# Altium footprint library Y001_Artix7_USB3.0_D0.PcbLib: 33 footprints (part 1 of 3)
Each footprint in its own frame and in the unit in brackets; x right, y up, seen from the top. Pads: shape width x height; smd on the part's side, far side on the other; paste and mask are expansions set on the pad; w line width, h text height; cw(c..) or ccw(c..) is an arc to the next point about the centre after c.
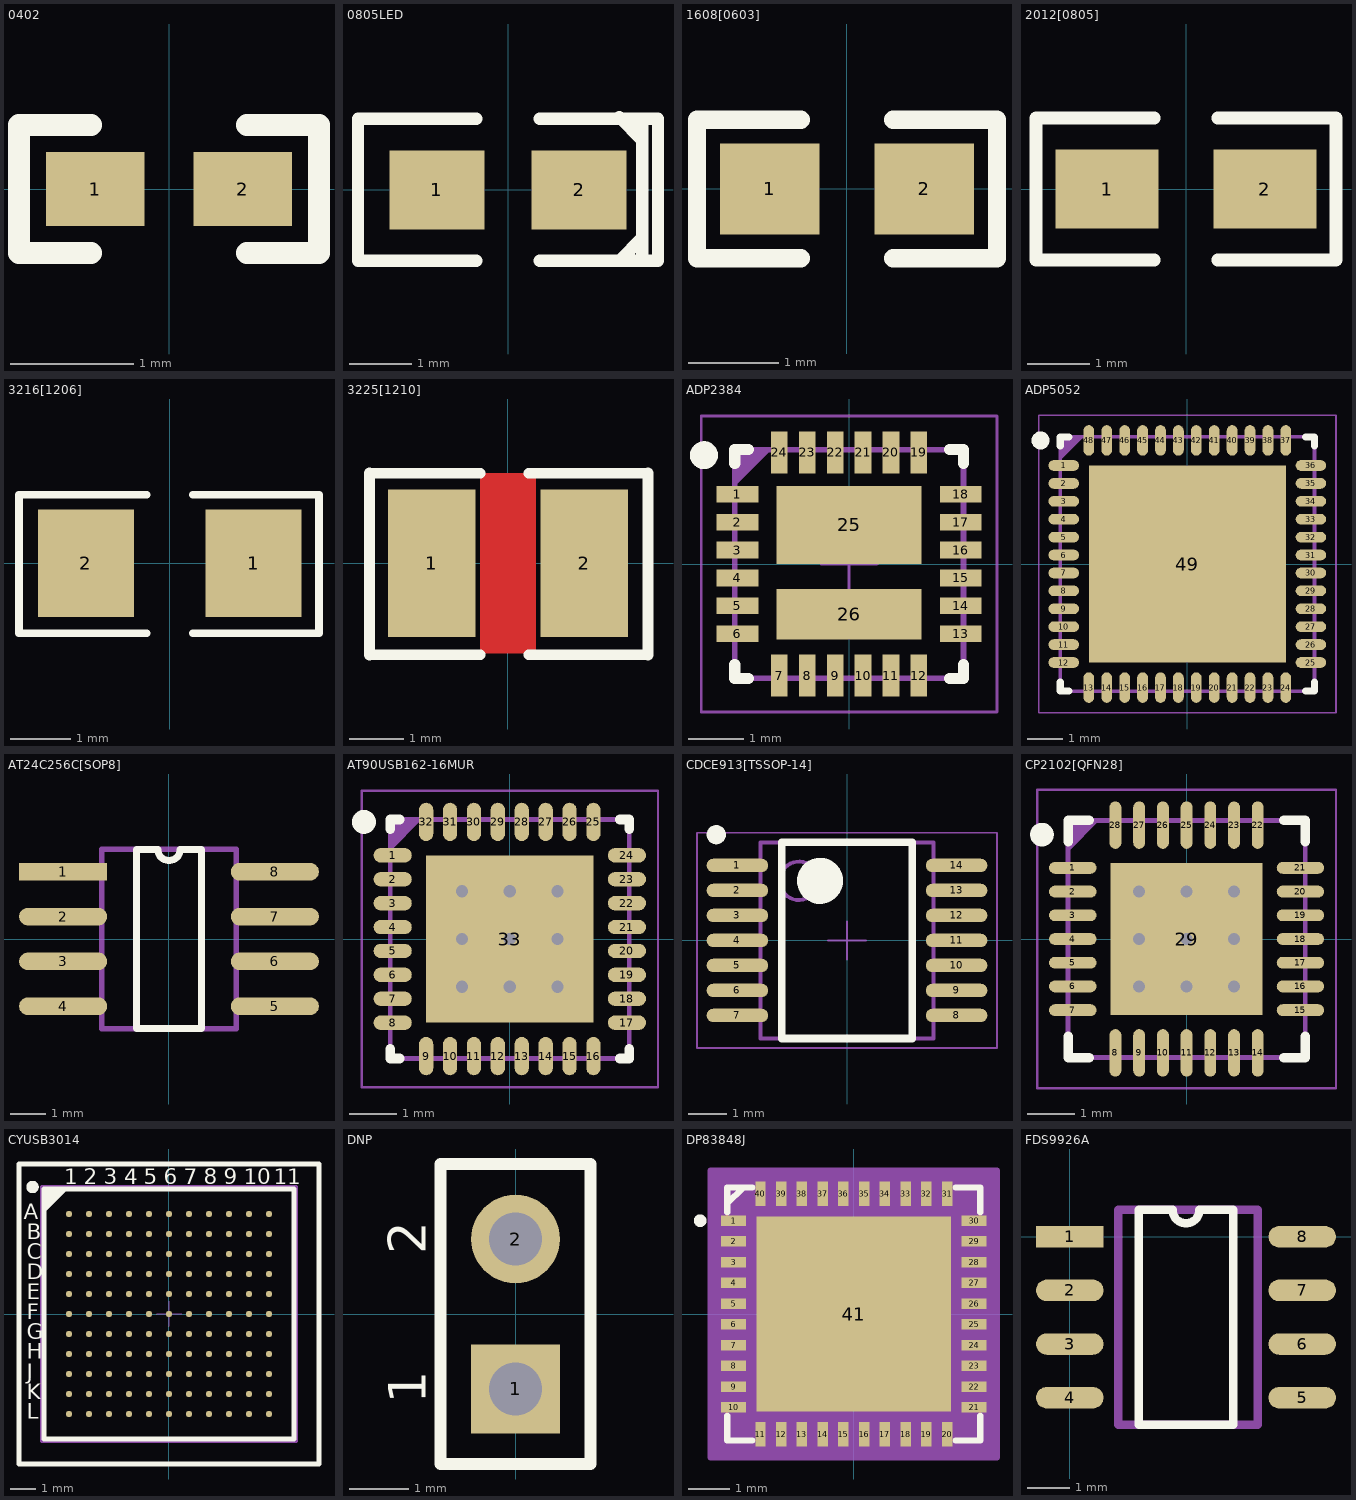
[diagram p0: the footprints below, top view; thin cyan lines are the x and y axes]

## 0402 [mm]
pads (2):
  rect 0.8x0.6 smd: 1(-0.6,0) 2(0.6,0)
Top Overlay:
  lines w0.178: -0.635,-0.521 -1.219,-0.521 -1.219,0.521 -0.635,0.521 ; 0.635,-0.521 1.219,-0.521 1.219,0.521 0.635,0.521
3D body: height 0.6, standoff 0, extent -0.549,-0.299 -0.351,0.299
3D body: height 0.6, standoff 0, extent -0.349,-0.299 0.349,0.299
3D body: height 0.6, standoff 0, extent 0.351,-0.299 0.549,0.299

## 0805LED [mil]
pads (2):
  rect 60x50 smd: 1(-45,0) 2(45,0)
Top Overlay:
  lines w7.87: -20,-45 -95,-45 -95,45 -20,45 ; 20,-45 95,-45 95,45 20,45 ; 70.51,-45 85,-30.51 ; 70.51,45.98 85,31.5 ; 85,-45 85,45

## 1608[0603] [mm]
pads (2):
  rect 1.1x1 smd: 1(-0.85,0) 2(0.85,0)
Top Overlay:
  lines w0.203: -0.508,-0.762 -1.651,-0.762 -1.651,0.762 -0.508,0.762 ; 0.508,-0.762 1.651,-0.762 1.651,0.762 0.508,0.762

## 2012[0805] [mil]
pads (2):
  rect 65x50 smd: 1(-50,0) 2(50,0)
Top Overlay:
  lines w8: -20,-45 -95,-45 -95,45 -20,45 ; 20,-45 95,-45 95,45 20,45

## 3216[1206] [mm]
pads (2):
  rect 1.6x1.8 smd: 1(1.4,0) 2(-1.4,0)
Top Overlay:
  lines w0.127: -0.381,-1.168 -2.515,-1.168 -2.515,1.143 -0.381,1.143 ; 0.381,-1.168 2.489,-1.168 2.489,1.143 0.381,1.143

## 3225[1210] [mm]
pads (2):
  rect 1.6x2.7 smd: 1(-1.4,0) 2(1.4,0)
Top Layer:
  pour cut-out: -0.508,1.651 0.508,1.651 0.508,-1.651 -0.508,-1.651
Top Overlay:
  lines w0.2: -2.54,-1.676 -0.508,-1.676 ; -2.54,1.651 -0.508,1.651 ; 0.381,-1.676 2.565,-1.676 ; 0.381,1.651 2.565,1.651
  lines w0.203: -2.54,-1.676 -2.54,1.651 ; 2.565,-1.676 2.565,1.651

## ADP2384 [mm]
pads (26):
  rect 0.75x0.3 smd: 1(-2,1.25) 2(-2,0.75) 3(-2,0.25) 4(-2,-0.25) 5(-2,-0.75) 6(-2,-1.25) 13(2,-1.25) 14(2,-0.75) 15(2,-0.25) 16(2,0.25) 17(2,0.75) 18(2,1.25)
  rect 0.3x0.75 smd: 7(-1.25,-2) 8(-0.75,-2) 9(-0.25,-2) 10(0.25,-2) 11(0.75,-2) 12(1.25,-2) 19(1.25,2) 20(0.75,2) 21(0.25,2) 22(-0.25,2) 23(-0.75,2) 24(-1.25,2)
  rect 2.6x1.4 smd: 25(0,0.7)
  rect 2.6x0.9 smd: 26(0,-0.9)
Top Overlay:
  circle w0.25: c-2.6,1.95 r0.125
  lines w0.2: -2.05,-1.8 -2.05,-2.05 -1.8,-2.05 ; -2.05,1.8 -2.05,2.05 -1.8,2.05 ; 1.8,-2.05 2.05,-2.05 2.05,-1.8 ; 1.8,2.05 2.05,2.05 2.05,1.8
Mechanical 15:
  lines w0.1: -2.05,1.45 -1.45,2.05 ; -2.05,1.55 -1.55,2.05 ; -2.05,1.65 -1.65,2.05 ; -2.05,1.75 -1.75,2.05 ; -2.05,1.85 -1.85,2.05 ; -2.05,1.95 -1.95,2.05 ; -2.05,-2.05 2.05,-2.05 2.05,2.05 -2.05,2.05 -2.05,-2.05
Mechanical 20:
  lines w0.05: -0.5,0 0.5,0 ; 0,-0.5 0,0.5 ; -2.65,-2.65 2.65,-2.65 2.65,2.65 -2.65,2.65 -2.65,-2.65
Mechanical 21:
  lines w0.001: -2.05,-2.05 2.05,-2.05 2.05,2.05 -2.05,2.05 -2.05,-2.05

## ADP5052 [mm]
pads (49):
  oval 0.85x0.3 smd: 1(-3.45,2.75) 2(-3.45,2.25) 3(-3.45,1.75) 4(-3.45,1.25) 5(-3.45,0.75) 6(-3.45,0.25) 7(-3.45,-0.25) 8(-3.45,-0.75) 9(-3.45,-1.25) 10(-3.45,-1.75) 11(-3.45,-2.25) 12(-3.45,-2.75) 25(3.45,-2.75) 26(3.45,-2.25) 27(3.45,-1.75) 28(3.45,-1.25) 29(3.45,-0.75) 30(3.45,-0.25) 31(3.45,0.25) 32(3.45,0.75) 33(3.45,1.25) 34(3.45,1.75) 35(3.45,2.25) 36(3.45,2.75)
  oval 0.3x0.85 smd: 13(-2.75,-3.45) 14(-2.25,-3.45) 15(-1.75,-3.45) 16(-1.25,-3.45) 17(-0.75,-3.45) 18(-0.25,-3.45) 19(0.25,-3.45) 20(0.75,-3.45) 21(1.25,-3.45) 22(1.75,-3.45) 23(2.25,-3.45) 24(2.75,-3.45) 37(2.75,3.45) 38(2.25,3.45) 39(1.75,3.45) 40(1.25,3.45) 41(0.75,3.45) 42(0.25,3.45) 43(-0.25,3.45) 44(-0.75,3.45) 45(-1.25,3.45) 46(-1.75,3.45) 47(-2.25,3.45) 48(-2.75,3.45)
  rect 5.5x5.5 smd: 49(0,0)
Top Overlay:
  circle w0.25: c-4.1,3.45 r0.125
  lines w0.2: -3.55,-3.3 -3.55,-3.55 -3.3,-3.55 ; -3.55,3.3 -3.55,3.55 -3.3,3.55 ; 3.3,-3.55 3.55,-3.55 3.55,-3.3 ; 3.3,3.55 3.55,3.55 3.55,3.3
Top Paste:
  region: 0.57,-0.57 2.27,-0.57 2.27,-2.27 0.57,-2.27
  region: -2.26,-0.57 -0.56,-0.57 -0.56,-2.27 -2.26,-2.27
  region: 0.57,2.26 2.27,2.26 2.27,0.56 0.57,0.56
  region: -2.26,2.26 -0.56,2.26 -0.56,0.56 -2.26,0.56
Mechanical 15:
  lines w0.1: -3.55,2.95 -2.95,3.55 ; -3.55,3.05 -3.05,3.55 ; -3.55,3.15 -3.15,3.55 ; -3.55,3.25 -3.25,3.55 ; -3.55,3.35 -3.35,3.55 ; -3.55,3.45 -3.45,3.55 ; -3.55,-3.55 -3.55,3.55 3.55,3.55 3.55,-3.55 -3.55,-3.55
Mechanical 20:
  lines w0.05: -0.5,0 0.5,0 ; 0,-0.5 0,0.5 ; -4.15,-4.15 -4.15,4.15 4.15,4.15 4.15,-4.15 -4.15,-4.15
Mechanical 21:
  lines w0.001: -3.55,-3.55 -3.55,3.55 3.55,3.55 3.55,-3.55 -3.55,-3.55
3D body: height 0.8, standoff 0, extent -3.154,-3.154 3.048,3.048

## AT24C256C[SOP8] [mm]
pads (8):
  rect 2.5x0.5 smd: 1(-3,1.905)
  oval 2.5x0.5 smd: 2(-3,0.635) 3(-3,-0.635) 4(-3,-1.905) 5(3,-1.905) 6(3,-0.635) 7(3,0.635) 8(3,1.905)
Top Overlay:
  lines w0.2: -0.915,-2.54 -0.915,2.54 -0.318,2.54 ccw(c0,2.54) 0.318,2.54 0.915,2.54 0.915,-2.54 -0.915,-2.54
Mechanical 15:
  lines w0.152: -1.905,-2.54 -1.905,2.54 1.905,2.54 1.905,-2.54 -1.905,-2.54
3D body: height 1.2, standoff 0, extent -1.905,-2.54 1.905,2.54

## AT90USB162-16MUR [mm]
pads (33):
  oval 0.8x0.3 smd: 1(-2.45,1.75) 2(-2.45,1.25) 3(-2.45,0.75) 4(-2.45,0.25) 5(-2.45,-0.25) 6(-2.45,-0.75) 7(-2.45,-1.25) 8(-2.45,-1.75) 17(2.45,-1.75) 18(2.45,-1.25) 19(2.45,-0.75) 20(2.45,-0.25) 21(2.45,0.25) 22(2.45,0.75) 23(2.45,1.25) 24(2.45,1.75)
  oval 0.3x0.8 smd: 9(-1.75,-2.45) 10(-1.25,-2.45) 11(-0.75,-2.45) 12(-0.25,-2.45) 13(0.25,-2.45) 14(0.75,-2.45) 15(1.25,-2.45) 16(1.75,-2.45) 25(1.75,2.45) 26(1.25,2.45) 27(0.75,2.45) 28(0.25,2.45) 29(-0.25,2.45) 30(-0.75,2.45) 31(-1.25,2.45) 32(-1.75,2.45)
  rect 3.5x3.5 smd: 33(0,0)
via 0,0 diameter 0.508 hole 0.254
via 1,-1 diameter 0.508 hole 0.254
via 0,-1 diameter 0.508 hole 0.254
via -1,-1 diameter 0.508 hole 0.254
via 1,0 diameter 0.508 hole 0.254
via -1,0 diameter 0.508 hole 0.254
via 1,1 diameter 0.508 hole 0.254
via 0,1 diameter 0.508 hole 0.254
via -1,1 diameter 0.508 hole 0.254
Top Overlay:
  circle w0.25: c-3.05,2.45 r0.125
  lines w0.2: -2.5,-2.3 -2.5,-2.5 -2.3,-2.5 ; -2.5,2.3 -2.5,2.5 -2.3,2.5 ; 2.3,-2.5 2.5,-2.5 2.5,-2.3 ; 2.3,2.5 2.5,2.5 2.5,2.3
Top Paste:
  region: -1.11,1.11 1.11,1.11 1.11,-1.11 -1.11,-1.11
Mechanical 15:
  lines w0.1: -2.5,1.9 -1.9,2.5 ; -2.5,2 -2,2.5 ; -2.5,2.1 -2.1,2.5 ; -2.5,2.2 -2.2,2.5 ; -2.5,2.3 -2.3,2.5 ; -2.5,2.4 -2.4,2.5 ; -2.5,-2.5 -2.5,2.5 2.5,2.5 2.5,-2.5 -2.5,-2.5
Mechanical 20:
  lines w0.05: -0.5,0 0.5,0 ; 0,-0.5 0,0.5 ; -3.1,-3.1 -3.1,3.1 3.1,3.1 3.1,-3.1 -3.1,-3.1
Mechanical 21:
  lines w0.001: -2.5,-2.5 -2.5,2.5 2.5,2.5 2.5,-2.5 -2.5,-2.5
3D body: height 1, standoff 0, extent -2.54,-2.54 2.54,2.54

## CDCE913[TSSOP-14] [mm]
pads (14):
  oval 1.6x0.35 smd: 1(-2.85,1.95) 2(-2.85,1.3) 3(-2.85,0.65) 4(-2.85,0) 5(-2.85,-0.65) 6(-2.85,-1.3) 7(-2.85,-1.95) 8(2.85,-1.95) 9(2.85,-1.3) 10(2.85,-0.65) 11(2.85,0) 12(2.85,0.65) 13(2.85,1.3) 14(2.85,1.95)
Top Overlay:
  circle w0.6: c-0.7,1.55 r0.3
  circle w0.25: c-3.4,2.75 r0.125
  lines w0.2: -1.7,-2.55 -1.7,2.55 1.7,2.55 1.7,-2.55 -1.7,-2.55
Mechanical 15:
  circle w0.1: c-1.25,1.55 r0.5
  lines w0.1: -2.25,-2.55 -2.25,2.55 2.25,2.55 2.25,-2.55 -2.25,-2.55
Mechanical 20:
  lines w0.05: -0.5,0 0.5,0 ; 0,-0.5 0,0.5 ; -3.9,-2.8 -3.9,2.8 3.9,2.8 3.9,-2.8 -3.9,-2.8
Mechanical 21:
  lines w0.001: -2.25,-2.55 -2.25,2.55 2.25,2.55 2.25,-2.55 -2.25,-2.55

## CP2102[QFN28] [mm]
pads (29):
  oval 1x0.25 smd: 1(-2.4,1.5) 2(-2.4,1) 3(-2.4,0.5) 4(-2.4,0) 5(-2.4,-0.5) 6(-2.4,-1) 7(-2.4,-1.5) 15(2.4,-1.5) 16(2.4,-1) 17(2.4,-0.5) 18(2.4,0) 19(2.4,0.5) 20(2.4,1) 21(2.4,1.5)
  oval 0.25x1 smd: 8(-1.5,-2.4) 9(-1,-2.4) 10(-0.5,-2.4) 11(0,-2.4) 12(0.5,-2.4) 13(1,-2.4) 14(1.5,-2.4) 22(1.5,2.4) 23(1,2.4) 24(0.5,2.4) 25(0,2.4) 26(-0.5,2.4) 27(-1,2.4) 28(-1.5,2.4)
  rect 3.2x3.2 smd: 29(0,0)
via 1,-1 diameter 0.508 hole 0.254
via 0,-1 diameter 0.508 hole 0.254
via -1,-1 diameter 0.508 hole 0.254
via -1,0 diameter 0.508 hole 0.254
via 1,0 diameter 0.508 hole 0.254
via 1,1 diameter 0.508 hole 0.254
via 0,1 diameter 0.508 hole 0.254
via -1,1 diameter 0.508 hole 0.254
via 0,0 diameter 0.508 hole 0.254
Top Overlay:
  circle w0.25: c-3.05,2.2 r0.125
  lines w0.2: -2.5,-2.05 -2.5,-2.5 -2.05,-2.5 ; -2.5,2.05 -2.5,2.5 -2.05,2.5 ; 2.05,-2.5 2.5,-2.5 2.5,-2.05 ; 2.05,2.5 2.5,2.5 2.5,2.05
Top Paste:
  region: -1.005,1.005 1.005,1.005 1.005,-1.005 -1.005,-1.005
Mechanical 15:
  lines w0.1: -2.5,1.9 -1.9,2.5 ; -2.5,2 -2,2.5 ; -2.5,2.1 -2.1,2.5 ; -2.5,2.2 -2.2,2.5 ; -2.5,2.3 -2.3,2.5 ; -2.5,2.4 -2.4,2.5 ; -2.5,-2.5 -2.5,2.5 2.5,2.5 2.5,-2.5 -2.5,-2.5
Mechanical 20:
  lines w0.05: -0.5,0 0.5,0 ; 0,-0.5 0,0.5 ; -3.15,-3.15 -3.15,3.15 3.15,3.15 3.15,-3.15 -3.15,-3.15
Mechanical 21:
  lines w0.001: -2.5,-2.5 -2.5,2.5 2.5,2.5 2.5,-2.5 -2.5,-2.5
3D body: height 1, standoff 0, extent -2.54,-2.54 2.54,2.54

## CYUSB3014 [mil]
pads (121):
  round 10 smd: A1(-157.48,157.48) A2(-125.98,157.48) A3(-94.49,157.48) A4(-62.99,157.48) A5(-31.5,157.48) A6(0,157.48) A7(31.5,157.48) A8(62.99,157.48) A9(94.49,157.48) A10(125.98,157.48) A11(157.48,157.48) B1(-157.48,125.98) B2(-125.98,125.98) B3(-94.49,125.98) B4(-62.99,125.98) B5(-31.5,125.98) B6(0,125.98) B7(31.5,125.98) B8(62.99,125.98) B9(94.49,125.98) B10(125.98,125.98) B11(157.48,125.98) C1(-157.48,94.49) C2(-125.98,94.49) C3(-94.49,94.49) C4(-62.99,94.49) C5(-31.5,94.49) C6(0,94.49) C7(31.5,94.49) C8(62.99,94.49) C9(94.49,94.49) C10(125.98,94.49) C11(157.48,94.49) D1(-157.48,62.99) D2(-125.98,62.99) D3(-94.49,62.99) D4(-62.99,62.99) D5(-31.5,62.99) D6(0,62.99) D7(31.5,62.99) D8(62.99,62.99) D9(94.49,62.99) D10(125.98,62.99) D11(157.48,62.99) E1(-157.48,31.5) E2(-125.98,31.5) E3(-94.49,31.5) E4(-62.99,31.5) E5(-31.5,31.5) E6(0,31.5) E7(31.5,31.5) E8(62.99,31.5) E9(94.49,31.5) E10(125.98,31.5) E11(157.48,31.5) F1(-157.48,0) F2(-125.98,0) F3(-94.49,0) F4(-62.99,0) F5(-31.5,0) F6(0,0) F7(31.5,0) F8(62.99,0) F9(94.49,0) F10(125.98,0) F11(157.48,0) G1(-157.48,-31.5) G2(-125.98,-31.5) G3(-94.49,-31.5) G4(-62.99,-31.5) G5(-31.5,-31.5) G6(0,-31.5) G7(31.5,-31.5) G8(62.99,-31.5) G9(94.49,-31.5) G10(125.98,-31.5) G11(157.48,-31.5) H1(-157.48,-62.99) H2(-125.98,-62.99) H3(-94.49,-62.99) H4(-62.99,-62.99) H5(-31.5,-62.99) H6(0,-62.99) H7(31.5,-62.99) H8(62.99,-62.99) H9(94.49,-62.99) H10(125.98,-62.99) H11(157.48,-62.99) J1(-157.48,-94.49) J2(-125.98,-94.49) J3(-94.49,-94.49) J4(-62.99,-94.49) J5(-31.5,-94.49) J6(0,-94.49) J7(31.5,-94.49) J8(62.99,-94.49) J9(94.49,-94.49) J10(125.98,-94.49) J11(157.48,-94.49) K1(-157.48,-125.98) K2(-125.98,-125.98) K3(-94.49,-125.98) K4(-62.99,-125.98) K5(-31.5,-125.98) K6(0,-125.98) K7(31.5,-125.98) K8(62.99,-125.98) K9(94.49,-125.98) K10(125.98,-125.98) K11(157.48,-125.98) L1(-157.48,-157.48) L2(-125.98,-157.48) L3(-94.49,-157.48) L4(-62.99,-157.48) L5(-31.5,-157.48) L6(0,-157.48) L7(31.5,-157.48) L8(62.99,-157.48) L9(94.49,-157.48) L10(125.98,-157.48) L11(157.48,-157.48)
Top Overlay:
  circle w9.84: c-214.92,200 r4.92
  lines w3.94: -196.85,161.42 -161.42,196.85 ; -196.85,165.35 -165.35,196.85 ; -196.85,169.29 -169.29,196.85 ; -196.85,173.23 -173.23,196.85 ; -196.85,177.17 -177.17,196.85 ; -196.85,181.1 -181.1,196.85 ; -196.85,185.04 -185.04,196.85 ; -196.85,188.98 -188.98,196.85 ; -196.85,192.91 -192.91,196.85
  lines w7.87: -236.22,-236.22 236.22,-236.22 236.22,236.22 -236.22,236.22 -236.22,-236.22 ; -196.85,-196.85 -196.85,196.85 196.85,196.85 196.85,-196.85 -196.85,-196.85
  text "11" at 165.35,204.61 h25
  text "10" at 118.11,204.61 h25
  text "9" at 86.61,204.61 h25
  text "8" at 55.12,204.61 h25
  text "7" at 23.62,204.61 h25
  text "6" at -7.87,204.61 h25
  text "5" at -39.37,204.61 h25
  text "4" at -70.87,204.61 h25
  text "3" at -102.36,204.61 h25
  text "2" at -133.86,204.61 h25
  text "1" at -165.35,204.61 h25
  text "J" at -223.81,-102.36 h25
  text "L" at -223.81,-165.35 h25
  text "K" at -223.81,-133.86 h25
  text "H" at -223.81,-70.87 h25
  text "G" at -223.81,-39.37 h25
  text "F" at -223.81,-7.87 h25
  text "E" at -223.81,23.62 h25
  text "D" at -223.81,55.12 h25
  text "C" at -223.81,86.61 h25
  text "B" at -223.81,118.11 h25
  text "A" at -228.35,149.61 h25
Mechanical 15:
  lines w3.94: -196.85,169.29 -169.29,196.85 ; -196.85,173.23 -173.23,196.85 ; -196.85,177.17 -177.17,196.85 ; -196.85,181.1 -181.1,196.85 ; -196.85,185.04 -185.04,196.85 ; -196.85,188.98 -188.98,196.85 ; -196.85,192.91 -192.91,196.85 ; -196.85,-196.85 -196.85,196.85 196.85,196.85 196.85,-196.85 -196.85,-196.85
  lines w6: -200,-200 200,-200 200,200 -200,200 -200,-200
Mechanical 20:
  lines w1.97: -19.68,0 19.69,0 ; 0,-19.68 0,19.69 ; -236.22,-236.22 -236.22,236.22 236.22,236.22 236.22,-236.22 -236.22,-236.22
Mechanical 21:
  lines w0.04: -196.85,-196.85 -196.85,196.85 196.85,196.85 196.85,-196.85 -196.85,-196.85
3D body: height 39.76, standoff 0, extent -200,-195 200,200

## DNP [mm] "Connector; Header; 5x2 Position"
pads (2):
  rect 1.5x1.5 hole 0.9: 1(0,-1.27)
  round 1.5 hole 0.9: 2(0,1.27)
Top Overlay:
  lines w0.2: -1.27,-2.54 -1.27,2.54 1.27,2.54 1.27,-2.54 -1.27,-2.54
  text "2" at -1.524,1.016 h0.64
  text "1" at -1.524,-1.524 h0.64

## DP83848J [mm]
pads (41):
  rect 0.6x0.25 smd: 1(-2.9,2.25) 2(-2.9,1.75) 3(-2.9,1.25) 4(-2.9,0.75) 5(-2.9,0.25) 6(-2.9,-0.25) 7(-2.9,-0.75) 8(-2.9,-1.25) 9(-2.9,-1.75) 10(-2.9,-2.25) 21(2.9,-2.25) 22(2.9,-1.75) 23(2.9,-1.25) 24(2.9,-0.75) 25(2.9,-0.25) 26(2.9,0.25) 27(2.9,0.75) 28(2.9,1.25) 29(2.9,1.75) 30(2.9,2.25)
  rect 0.25x0.6 smd: 11(-2.25,-2.9) 12(-1.75,-2.9) 13(-1.25,-2.9) 14(-0.75,-2.9) 15(-0.25,-2.9) 16(0.25,-2.9) 17(0.75,-2.9) 18(1.25,-2.9) 19(1.75,-2.9) 20(2.25,-2.9) 31(2.25,2.9) 32(1.75,2.9) 33(1.25,2.9) 34(0.75,2.9) 35(0.25,2.9) 36(-0.25,2.9) 37(-0.75,2.9) 38(-1.25,2.9) 39(-1.75,2.9) 40(-2.25,2.9)
  rect 4.7x4.7 smd paste-2.337: 41(0,0)
Top Overlay:
  circle w0.152: c-3.704,2.25 r0.076
  lines w0.152: -3.05,-2.451 -3.05,-3.05 -2.451,-3.05 ; -3.05,2.451 -3.05,3.05 -2.451,3.05 ; -3.048,2.667 -2.667,3.048 ; 2.451,-3.05 3.05,-3.05 3.05,-2.451 ; 2.451,3.05 3.05,3.05 3.05,2.451
Top Paste:
  region: -0.883,2.25 -2.25,2.25 -2.25,0.883 -0.883,0.883
  region: -0.883,0.683 -2.25,0.683 -2.25,-0.683 -0.883,-0.683
  region: -0.883,-0.883 -2.25,-0.883 -2.25,-2.25 -0.883,-2.25
  region: 0.683,2.25 -0.683,2.25 -0.683,0.883 0.683,0.883
  region: 0.683,0.683 -0.683,0.683 -0.683,-0.683 0.683,-0.683
  region: 0.683,-0.883 -0.683,-0.883 -0.683,-2.25 0.683,-2.25
  region: 2.25,2.25 0.883,2.25 0.883,0.883 2.25,0.883
  region: 2.25,0.683 0.883,0.683 0.883,-0.683 2.25,-0.683
  region: 2.25,-0.883 0.883,-0.883 0.883,-2.25 2.25,-2.25
Mechanical 13:
  circle w0: c-3.704,2.25 r0.076
Mechanical 15:
  region: 3.454,-3.454 -3.454,-3.454 -3.454,3.454 3.454,3.454
  lines w0.152: -3.454,-3.454 -3.454,3.454 3.454,3.454 3.454,-3.454 -3.454,-3.454
3D body: height 0.8, standoff 0, extent -3.154,-3.154 3.048,3.048

## FDS9926A [mm]
pads (8):
  rect 1.6x0.51 smd: 1(0,0)
  oval 1.6x0.51 smd: 2(0,-1.27) 3(0,-2.54) 4(0,-3.81) 5(5.5,-3.81) 6(5.5,-2.54) 7(5.5,-1.27) 8(5.5,0)
Top Overlay:
  lines w0.2: 1.635,-4.445 3.865,-4.445 3.865,0.635 3.067,0.635 cw(c2.75,0.635) 2.432,0.635 1.635,0.635 1.635,-4.445
Mechanical 15:
  lines w0.2: 1.651,0.635 4.445,0.635 4.445,-4.445 1.143,-4.445 1.143,0.635 2.413,0.635